# Altium footprint library OBDH_Ed02.PcbLib: 26 footprints (part 2 of 2)
Each footprint in its own frame and in the unit in brackets; x right, y up, seen from the top. Pads: shape width x height; smd on the part's side, far side on the other; paste and mask are expansions set on the pad; w line width, h text height; cw(c..) or ccw(c..) is an arc to the next point about the centre after c.
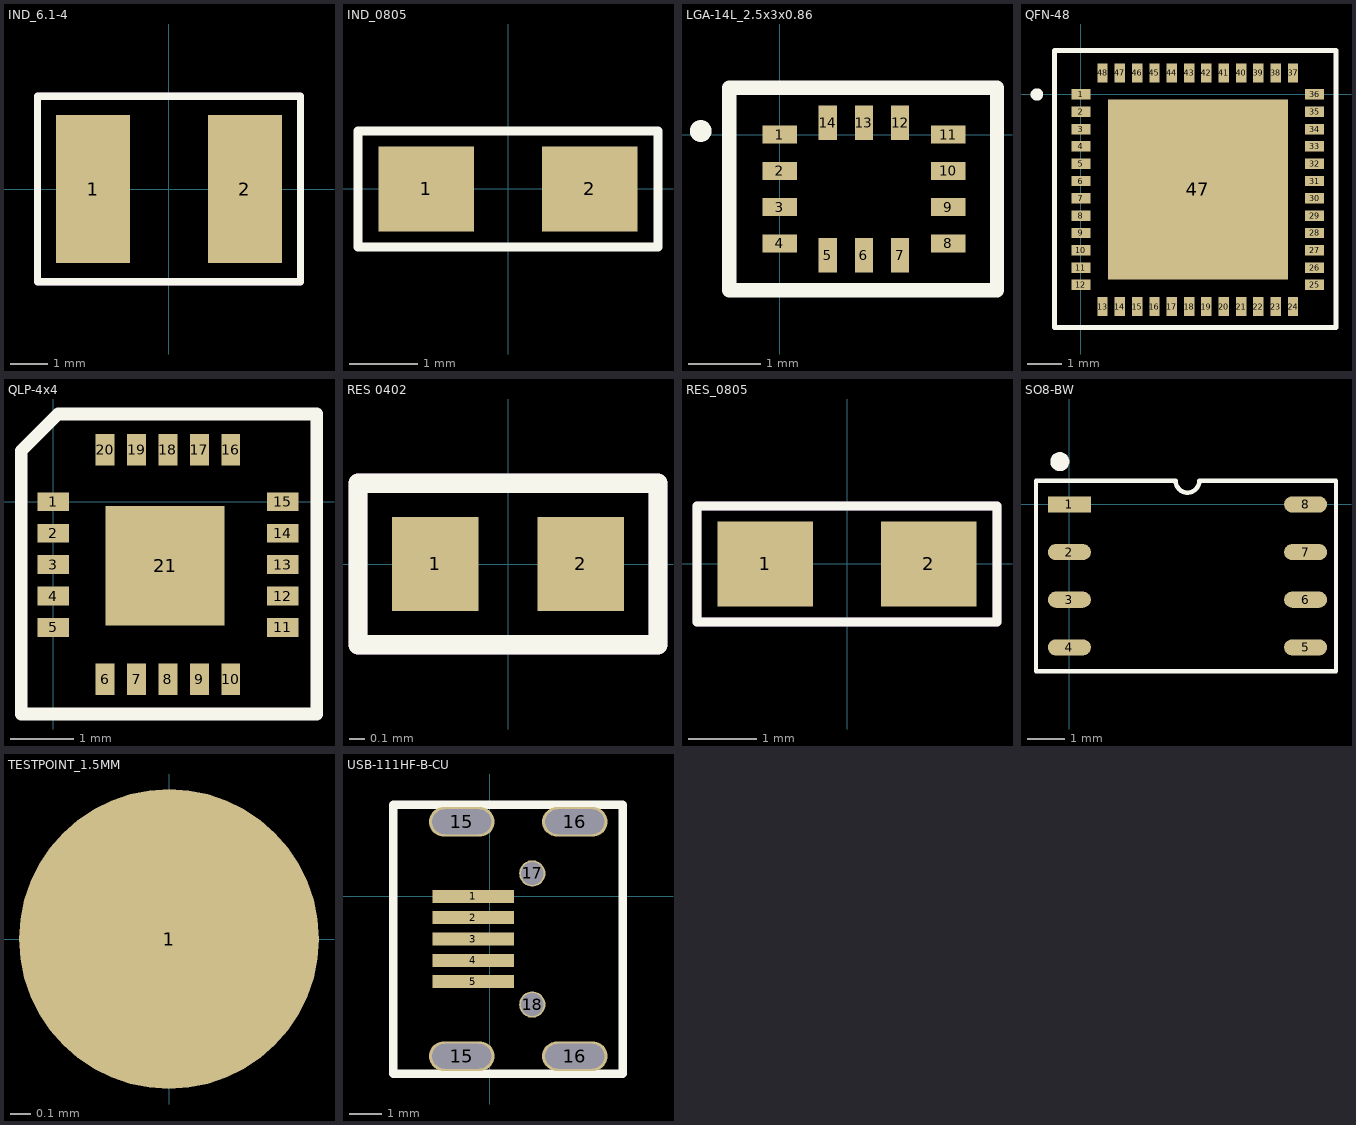
[diagram p1: the footprints below, top view; thin cyan lines are the x and y axes]

## IND_6.1-4 [mm]
pads (2):
  rect 2x4 smd: 1(-2.05,0) 2(2.05,0)
Top Overlay:
  lines w0.2: -3.55,-2.5 -3.55,0 -3.55,2.5 3.55,2.5 3.55,-2.5 -3.55,-2.5
Mechanical 13:
  lines w0.2: -3.55,-2.5 -3.55,0 -3.55,2.5 3.55,2.5 3.55,-2.5 -3.55,-2.5
3D body "vls5045ex-h.step": height 4.36, standoff 0.01, extent -2.65,-2.5 2.65,2.5

## IND_0805 [mm] "INDUTOR 0805"
height 1
pads (2):
  rect 1.4x1.25 smd mask+0.1: 1(-1.2,0) 2(1.2,0)
Top Overlay:
  lines w0.127: -2.2,-0.85 2.2,-0.85 ; -2.2,-0.85 -2.2,0.85 ; -2.2,-0.85 -2.2,0.85 ; -2.2,-0.85 2.2,-0.85 ; -2.2,0.85 2.2,0.85 ; -2.2,0.85 2.2,0.85 ; 2.2,-0.85 2.2,0.85 ; 2.2,-0.85 2.2,0.85
3D body "Indutor_0805.stp": height 0.51, standoff 0.01, extent -1,-0.625 1,0.625

## LGA-14L_2.5x3x0.86 [mm]
pads (14):
  rect 0.475x0.25 smd mask+0.065: 1(0,0) 2(0,-0.5) 3(0,-1) 4(0,-1.5) 8(2.325,-1.5) 9(2.325,-1) 10(2.325,-0.5) 11(2.325,0)
  rect 0.25x0.475 smd mask+0.065: 5(0.663,-1.662) 6(1.162,-1.662) 7(1.662,-1.662) 12(1.662,0.162) 13(1.162,0.162) 14(0.663,0.162)
Top Overlay:
  circle w0.2: c-1.092,0.051 r0.05
  lines w0.2: -0.7,-2.15 3,-2.15 ; -0.7,-2.15 -0.7,0.65 ; -0.7,-2.15 -0.7,0.65 ; -0.7,-2.15 3,-2.15 ; -0.7,0.65 3,0.65 ; -0.7,0.65 3,0.65 ; 3,-2.15 3,0.65 ; 3,-2.15 3,0.65

## QFN-48 [mm]
pads (49):
  rect 0.55x0.3 smd mask+0.04: 1(0,0) 2(0,-0.5) 3(0,-1) 4(0,-1.5) 5(0,-2) 6(0,-2.5) 7(0,-3) 8(0,-3.5) 9(0,-4) 10(0,-4.5) 11(0,-5) 12(0,-5.5) 25(6.75,-5.5) 26(6.75,-5) 27(6.75,-4.5) 28(6.75,-4) 29(6.75,-3.5) 30(6.75,-3) 31(6.75,-2.5) 32(6.75,-2) 33(6.75,-1.5) 34(6.75,-1) 35(6.75,-0.5) 36(6.75,0)
  rect 0.3x0.55 smd mask+0.04: 13(0.625,-6.125) 14(1.125,-6.125) 15(1.625,-6.125) 16(2.125,-6.125) 17(2.625,-6.125) 18(3.125,-6.125) 19(3.625,-6.125) 20(4.125,-6.125) 21(4.625,-6.125) 22(5.125,-6.125) 23(5.625,-6.125) 24(6.125,-6.125) 37(6.125,0.625) 38(5.625,0.625) 39(5.125,0.625) 40(4.625,0.625) 41(4.125,0.625) 42(3.625,0.625) 43(3.125,0.625) 44(2.625,0.625) 45(2.125,0.625) 46(1.625,0.625) 47(1.125,0.625) 48(0.625,0.625)
  rect 5.2x5.2 smd mask+0.04: 47(3.378,-2.743)
Top Overlay:
  circle w0.305: c-1.27,0 r0.025
  lines w0.152: -0.762,-6.731 7.366,-6.731 7.366,1.27 -0.762,1.27 -0.762,-6.731
3D body "VQFN48_INF.step": height 0.9, standoff 0.01, extent -0.178,-6.299 6.934,0.813

## QLP-4x4 [mm]
pads (21):
  rect 0.5x0.3 smd mask+0.07: 1(0,0) 2(0,-0.5) 3(0,-1) 4(0,-1.5) 5(0,-2) 11(3.65,-2) 12(3.65,-1.5) 13(3.65,-1) 14(3.65,-0.5) 15(3.65,0)
  rect 0.3x0.5 smd mask+0.07: 6(0.825,-2.825) 7(1.325,-2.825) 8(1.825,-2.825) 9(2.325,-2.825) 10(2.825,-2.825) 16(2.825,0.825) 17(2.325,0.825) 18(1.825,0.825) 19(1.325,0.825) 20(0.825,0.825)
  rect 1.9x1.9 smd mask+0.07: 21(1.778,-1.016)
Top Overlay:
  lines w0.2: -0.508,-3.378 -0.508,0.813 0.076,1.397 4.191,1.397 4.191,-3.378 -0.508,-3.378

## RES 0402 [mm] "GT1021_ED02r2"
height 0.35
pads (2):
  rect 0.57x0.62 smd paste-0.05 mask+0.05: 1(-0.48,0) 2(0.48,0)
Top Overlay:
  lines w0.127: -0.991,-0.533 0.991,-0.533 0.991,0.533 -0.991,0.533 -0.991,-0.533
Mechanical 13:
  lines w0.127: -0.991,-0.533 0.991,-0.533 0.991,0.533 -0.991,0.533 -0.991,-0.533
3D body "RESISTOR 0402.step": height 0.36, standoff 0.01, extent -0.5,-0.25 0.5,0.25

## RES_0805 [mm] "INDUTOR 0805"
height 1
pads (2):
  rect 1.4x1.25 smd mask+0.1: 1(-1.2,0) 2(1.2,0)
Top Overlay:
  lines w0.127: -2.2,-0.85 2.2,-0.85 2.2,0.85 -2.2,0.85 -2.2,-0.85
Mechanical 13:
  lines w0.127: -2.2,-0.85 2.2,-0.85 2.2,0.85 -2.2,0.85 -2.2,-0.85
3D body "Indutor_0805.stp": height 0.51, standoff 0.01, extent -1,-0.625 1,0.625

## SO8-BW [mm]
pads (8):
  rect 1.15x0.43 smd: 1(0,0)
  oval 1.15x0.43 smd: 2(0,-1.27) 3(0,-2.54) 4(0,-3.81) 5(6.3,-3.81) 6(6.3,-2.54) 7(6.3,-1.27) 8(6.3,0)
Top Overlay:
  circle w0.254: c-0.254,1.143 r0.127
  lines w0.12: -0.889,-4.445 -0.889,0.635 2.832,0.635 ccw(c3.15,0.635) 3.467,0.635 7.112,0.635 7.112,-4.445 -0.889,-4.445
3D body "SO_S40IDR_STM.step": height 1.77, standoff 0.01, extent 0.076,-4.42 6.274,0.61

## TESTPOINT_1.5MM [mm] "GT1021_ED04R1"
pads (1):
  round 1.5 smd paste-1: 1(0,0)

## USB-111HF-B-CU [mm]
pads (11):
  rect 2.5x0.4 smd mask+0.075: 1(-0.5,0) 2(-0.5,-0.65) 3(-0.5,-1.3) 4(-0.5,-1.95) 5(-0.5,-2.6)
  oval 2x0.9 hole 0.75 slot 1.8 at 0 deg mask+0.075: 15(-0.85,-4.875) 15(-0.85,2.275)
  oval 2x0.9 hole 0.75 slot 1.8 at 0 deg unplated mask+0.075: 16(2.6,-4.875) 16(2.6,2.275)
  round 0.8 hole 0.7 mask+0.075: 17(1.3,0.7) 18(1.3,-3.3)
Top Overlay:
  lines w0.254: -2.944,-5.406 4.064,-5.406 4.064,2.794 -2.944,2.794 -2.944,-5.406
3D body "ZX62D-B-5PA8.stp": height 2.73, standoff -0.75, extent -2.18,-5.444 3.62,2.65